# Altium integrated library TI Logic Arithmetic.IntLib: 194 symbols (part 1 of 4)
Pins are listed as number, name and electrical type; pins without a type are passive.

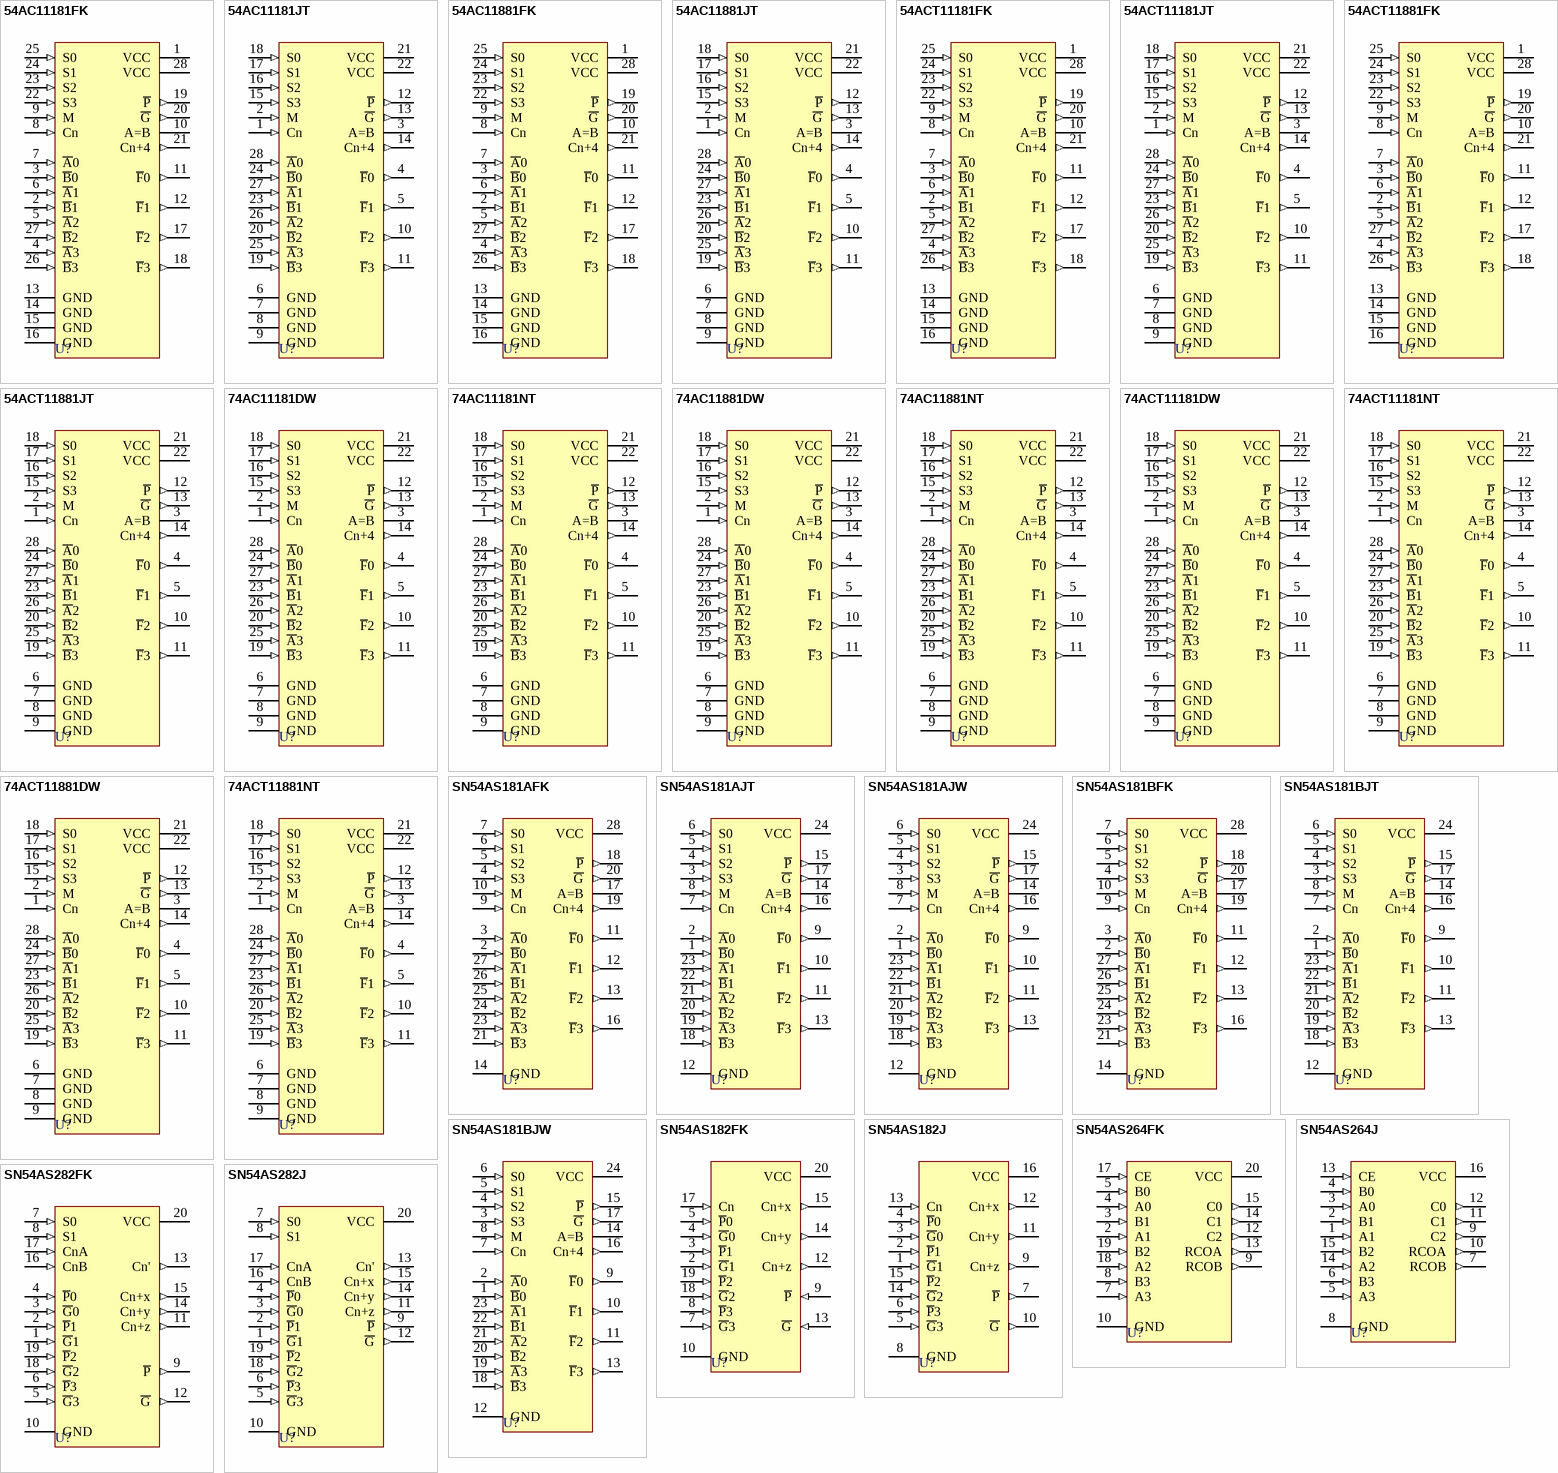
[diagram p0: symbols 54AC11181FK to SN54AS282J]

## 54AC11181FK
designator U?
Arithmetic Logic Unit / Function Generator; Published: 8-Jun-2000; LatestRevisionDate: 17-Jul-2002; LatestRevisionNote: Re-released for DXP Platform.; DatasheetVersion: Mar-1990; PackageVersion: 1998; PackageReference: FK028D; Publisher: Altium Limited; PackageDescription: Leadless Chip Carrier; 28 Terminals; Body 11.4 x 11.4 mm; ComponentLink1Description: Manufacturer Link; ComponentLink1URL: http://www.ti.com
footprint FK028D (Leadless Chip Carrier; 28 Terminals; Body 11.4 x 11.4 mm)
signal-integrity model 54AC11181FK
pins: 1 VCC (power), 2 ~{B}1 (in), 3 ~{B}0 (in), 4 ~{A}3 (in), 5 ~{A}2 (in), 6 ~{A}1 (in), 7 ~{A}0 (in), 8 Cn (in), 9 M (in), 10 A=B (oc), 11 ~{F}0 (out), 12 ~{F}1 (out), 13 GND (power), 14 GND (power), 15 GND (power), 16 GND (power), 17 ~{F}2 (out), 18 ~{F}3 (out), 19 ~{P} (out), 20 ~{G} (out), 21 Cn+4 (out), 22 S3 (in), 23 S2 (in), 24 S1 (in), 25 S0 (in), 26 ~{B}3 (in), 27 ~{B}2 (in), 28 VCC (power)

## 54AC11181JT
designator U?
Arithmetic Logic Unit / Function Generator; Published: 8-Jun-2000; LatestRevisionDate: 04-Mar-2005; LatestRevisionNote: Stylized 3D Model Added.; DatasheetVersion: Mar-1990; PackageVersion: Jan-1997; PackageReference: JT028D; Publisher: Altium Limited; PackageDescription: DIP; 28 Leads; Row Spacing 7.62 mm; Pitch 2.54 mm; ComponentLink1Description: Manufacturer Link; ComponentLink1URL: http://www.ti.com
footprint JT028D (DIP; 28 Leads; Row Spacing 7.62 mm; Pitch 2.54 mm)
3D model JT028 (DIP; 28 Leads; Row Spacing 7.62 mm; Pitch 2.54 mm)
signal-integrity model 54AC11181JT
pins: 1 Cn (in), 2 M (in), 3 A=B (oc), 4 ~{F}0 (out), 5 ~{F}1 (out), 6 GND (power), 7 GND (power), 8 GND (power), 9 GND (power), 10 ~{F}2 (out), 11 ~{F}3 (out), 12 ~{P} (out), 13 ~{G} (out), 14 Cn+4 (out), 15 S3 (in), 16 S2 (in), 17 S1 (in), 18 S0 (in), 19 ~{B}3 (in), 20 ~{B}2 (in), 21 VCC (power), 22 VCC (power), 23 ~{B}1 (in), 24 ~{B}0 (in), 25 ~{A}3 (in), 26 ~{A}2 (in), 27 ~{A}1 (in), 28 ~{A}0 (in)

## 54AC11881FK
designator U?
Arithmetic Logic Unit / Function Generator; Published: 8-Jun-2000; LatestRevisionDate: 17-Jul-2002; LatestRevisionNote: Re-released for DXP Platform.; DatasheetVersion: Mar-1990; PackageVersion: 1998; PackageReference: FK028D; Publisher: Altium Limited; PackageDescription: Leadless Chip Carrier; 28 Terminals; Body 11.4 x 11.4 mm; ComponentLink1Description: Manufacturer Link; ComponentLink1URL: http://www.ti.com
footprint FK028D (Leadless Chip Carrier; 28 Terminals; Body 11.4 x 11.4 mm)
signal-integrity model 54AC11881FK
pins: 1 VCC (power), 2 ~{B}1 (in), 3 ~{B}0 (in), 4 ~{A}3 (in), 5 ~{A}2 (in), 6 ~{A}1 (in), 7 ~{A}0 (in), 8 Cn (in), 9 M (in), 10 A=B (oc), 11 ~{F}0 (out), 12 ~{F}1 (out), 13 GND (power), 14 GND (power), 15 GND (power), 16 GND (power), 17 ~{F}2 (out), 18 ~{F}3 (out), 19 ~{P} (out), 20 ~{G} (out), 21 Cn+4 (out), 22 S3 (in), 23 S2 (in), 24 S1 (in), 25 S0 (in), 26 ~{B}3 (in), 27 ~{B}2 (in), 28 VCC (power)

## 54AC11881JT
designator U?
Arithmetic Logic Unit / Function Generator; Published: 8-Jun-2000; LatestRevisionDate: 04-Mar-2005; LatestRevisionNote: Stylized 3D Model Added.; DatasheetVersion: Mar-1990; PackageVersion: Jan-1997; PackageReference: JT028D; Publisher: Altium Limited; PackageDescription: DIP; 28 Leads; Row Spacing 7.62 mm; Pitch 2.54 mm; ComponentLink1Description: Manufacturer Link; ComponentLink1URL: http://www.ti.com
footprint JT028D (DIP; 28 Leads; Row Spacing 7.62 mm; Pitch 2.54 mm)
3D model JT028 (DIP; 28 Leads; Row Spacing 7.62 mm; Pitch 2.54 mm)
signal-integrity model 54AC11881JT
pins: 1 Cn (in), 2 M (in), 3 A=B (oc), 4 ~{F}0 (out), 5 ~{F}1 (out), 6 GND (power), 7 GND (power), 8 GND (power), 9 GND (power), 10 ~{F}2 (out), 11 ~{F}3 (out), 12 ~{P} (out), 13 ~{G} (out), 14 Cn+4 (out), 15 S3 (in), 16 S2 (in), 17 S1 (in), 18 S0 (in), 19 ~{B}3 (in), 20 ~{B}2 (in), 21 VCC (power), 22 VCC (power), 23 ~{B}1 (in), 24 ~{B}0 (in), 25 ~{A}3 (in), 26 ~{A}2 (in), 27 ~{A}1 (in), 28 ~{A}0 (in)

## 54ACT11181FK
designator U?
Arithmetic Logic Unit / Function Generator; Published: 8-Jun-2000; LatestRevisionDate: 17-Jul-2002; LatestRevisionNote: Re-released for DXP Platform.; DatasheetVersion: Mar-1990; PackageVersion: 1998; PackageReference: FK028D; Publisher: Altium Limited; PackageDescription: Leadless Chip Carrier; 28 Terminals; Body 11.4 x 11.4 mm; ComponentLink1Description: Manufacturer Link; ComponentLink1URL: http://www.ti.com
footprint FK028D (Leadless Chip Carrier; 28 Terminals; Body 11.4 x 11.4 mm)
signal-integrity model 54ACT11181FK
pins: 1 VCC (power), 2 ~{B}1 (in), 3 ~{B}0 (in), 4 ~{A}3 (in), 5 ~{A}2 (in), 6 ~{A}1 (in), 7 ~{A}0 (in), 8 Cn (in), 9 M (in), 10 A=B (oc), 11 ~{F}0 (out), 12 ~{F}1 (out), 13 GND (power), 14 GND (power), 15 GND (power), 16 GND (power), 17 ~{F}2 (out), 18 ~{F}3 (out), 19 ~{P} (out), 20 ~{G} (out), 21 Cn+4 (out), 22 S3 (in), 23 S2 (in), 24 S1 (in), 25 S0 (in), 26 ~{B}3 (in), 27 ~{B}2 (in), 28 VCC (power)

## 54ACT11181JT
designator U?
Arithmetic Logic Unit / Function Generator; Published: 8-Jun-2000; LatestRevisionDate: 04-Mar-2005; LatestRevisionNote: Stylized 3D Model Added.; DatasheetVersion: Mar-1990; PackageVersion: Jan-1997; PackageReference: JT028D; Publisher: Altium Limited; PackageDescription: DIP; 28 Leads; Row Spacing 7.62 mm; Pitch 2.54 mm; ComponentLink1Description: Manufacturer Link; ComponentLink1URL: http://www.ti.com
footprint JT028D (DIP; 28 Leads; Row Spacing 7.62 mm; Pitch 2.54 mm)
3D model JT028 (DIP; 28 Leads; Row Spacing 7.62 mm; Pitch 2.54 mm)
signal-integrity model 54ACT11181JT
pins: 1 Cn (in), 2 M (in), 3 A=B (oc), 4 ~{F}0 (out), 5 ~{F}1 (out), 6 GND (power), 7 GND (power), 8 GND (power), 9 GND (power), 10 ~{F}2 (out), 11 ~{F}3 (out), 12 ~{P} (out), 13 ~{G} (out), 14 Cn+4 (out), 15 S3 (in), 16 S2 (in), 17 S1 (in), 18 S0 (in), 19 ~{B}3 (in), 20 ~{B}2 (in), 21 VCC (power), 22 VCC (power), 23 ~{B}1 (in), 24 ~{B}0 (in), 25 ~{A}3 (in), 26 ~{A}2 (in), 27 ~{A}1 (in), 28 ~{A}0 (in)

## 54ACT11881FK
designator U?
Arithmetic Logic Unit / Function Generator; Published: 8-Jun-2000; LatestRevisionDate: 17-Jul-2002; LatestRevisionNote: Re-released for DXP Platform.; DatasheetVersion: Mar-1990; PackageVersion: 1998; PackageReference: FK028D; Publisher: Altium Limited; PackageDescription: Leadless Chip Carrier; 28 Terminals; Body 11.4 x 11.4 mm; ComponentLink1Description: Manufacturer Link; ComponentLink1URL: http://www.ti.com
footprint FK028D (Leadless Chip Carrier; 28 Terminals; Body 11.4 x 11.4 mm)
signal-integrity model 54ACT11881FK
pins: 1 VCC (power), 2 ~{B}1 (in), 3 ~{B}0 (in), 4 ~{A}3 (in), 5 ~{A}2 (in), 6 ~{A}1 (in), 7 ~{A}0 (in), 8 Cn (in), 9 M (in), 10 A=B (oc), 11 ~{F}0 (out), 12 ~{F}1 (out), 13 GND (power), 14 GND (power), 15 GND (power), 16 GND (power), 17 ~{F}2 (out), 18 ~{F}3 (out), 19 ~{P} (out), 20 ~{G} (out), 21 Cn+4 (out), 22 S3 (in), 23 S2 (in), 24 S1 (in), 25 S0 (in), 26 ~{B}3 (in), 27 ~{B}2 (in), 28 VCC (power)

## 54ACT11881JT
designator U?
Arithmetic Logic Unit / Function Generator; Published: 8-Jun-2000; LatestRevisionDate: 04-Mar-2005; LatestRevisionNote: Stylized 3D Model Added.; DatasheetVersion: Mar-1990; PackageVersion: Jan-1997; PackageReference: JT028D; Publisher: Altium Limited; PackageDescription: DIP; 28 Leads; Row Spacing 7.62 mm; Pitch 2.54 mm; ComponentLink1Description: Manufacturer Link; ComponentLink1URL: http://www.ti.com
footprint JT028D (DIP; 28 Leads; Row Spacing 7.62 mm; Pitch 2.54 mm)
3D model JT028 (DIP; 28 Leads; Row Spacing 7.62 mm; Pitch 2.54 mm)
signal-integrity model 54ACT11881JT
pins: 1 Cn (in), 2 M (in), 3 A=B (oc), 4 ~{F}0 (out), 5 ~{F}1 (out), 6 GND (power), 7 GND (power), 8 GND (power), 9 GND (power), 10 ~{F}2 (out), 11 ~{F}3 (out), 12 ~{P} (out), 13 ~{G} (out), 14 Cn+4 (out), 15 S3 (in), 16 S2 (in), 17 S1 (in), 18 S0 (in), 19 ~{B}3 (in), 20 ~{B}2 (in), 21 VCC (power), 22 VCC (power), 23 ~{B}1 (in), 24 ~{B}0 (in), 25 ~{A}3 (in), 26 ~{A}2 (in), 27 ~{A}1 (in), 28 ~{A}0 (in)

## 74AC11181DW
designator U?
Arithmetic Logic Unit / Function Generator; ComponentAvailability: Obsolete; Published: 8-Jun-2000; LatestRevisionDate: 13-Apr-2006; LatestRevisionNote: IPC-7351 Footprint Added.; DatasheetVersion: Mar-1990; PackageVersion: Mar-2000; PackageReference: DW028; Publisher: Altium Limited; PackageDescription: 28-Pin Plastic Small Outline Integrated Circuit 1.27 mm Pitch; Code_JEDEC: MS-013; ComponentLink1Description: Manufacturer Link; ComponentLink1URL: http://www.ti.com; ComponentLink2Description: Discontinuation Notice; ComponentLink2URL: http://focus.ti.com/docs/prod/folders/print/74ac11181.html
footprint DW028_N (SOIC, 28-Leads, Body 17.9x7.5mm, Pitch 1.27mm, IPC Medium Density)
footprint DW028_L (SOIC, 28-Leads, Body 17.9x7.5mm, Pitch 1.27mm, IPC High Density)
footprint DW028_M (SOIC, 28-Leads, Body 17.9x7.5mm, Pitch 1.27mm, IPC Low Density)
3D model DW028 (28-Pin Plastic Small Outline Integrated Circuit 1.27 mm Pitch)
signal-integrity model 74AC11181DW
pins: 1 Cn (in), 2 M (in), 3 A=B (oc), 4 ~{F}0 (out), 5 ~{F}1 (out), 6 GND (power), 7 GND (power), 8 GND (power), 9 GND (power), 10 ~{F}2 (out), 11 ~{F}3 (out), 12 ~{P} (out), 13 ~{G} (out), 14 Cn+4 (out), 15 S3 (in), 16 S2 (in), 17 S1 (in), 18 S0 (in), 19 ~{B}3 (in), 20 ~{B}2 (in), 21 VCC (power), 22 VCC (power), 23 ~{B}1 (in), 24 ~{B}0 (in), 25 ~{A}3 (in), 26 ~{A}2 (in), 27 ~{A}1 (in), 28 ~{A}0 (in)

## 74AC11181NT
designator U?
Arithmetic Logic Unit / Function Generator; Published: 8-Jun-2000; LatestRevisionDate: 04-Mar-2005; LatestRevisionNote: Stylized 3D Model Added.; DatasheetVersion: Mar-1990; PackageVersion: Oct-1994; PackageReference: NT028D; Publisher: Altium Limited; PackageDescription: DIP; 28 Leads; Row Spacing 7.62 mm; Pitch 2.54 mm; ComponentLink1Description: Manufacturer Link; ComponentLink1URL: http://www.ti.com
footprint NT028D (DIP; 28 Leads; Row Spacing 7.62 mm; Pitch 2.54 mm)
3D model NT028 (DIP; 28 Leads; Row Spacing 7.62 mm; Pitch 2.54 mm)
signal-integrity model 74AC11181NT
pins: 1 Cn (in), 2 M (in), 3 A=B (oc), 4 ~{F}0 (out), 5 ~{F}1 (out), 6 GND (power), 7 GND (power), 8 GND (power), 9 GND (power), 10 ~{F}2 (out), 11 ~{F}3 (out), 12 ~{P} (out), 13 ~{G} (out), 14 Cn+4 (out), 15 S3 (in), 16 S2 (in), 17 S1 (in), 18 S0 (in), 19 ~{B}3 (in), 20 ~{B}2 (in), 21 VCC (power), 22 VCC (power), 23 ~{B}1 (in), 24 ~{B}0 (in), 25 ~{A}3 (in), 26 ~{A}2 (in), 27 ~{A}1 (in), 28 ~{A}0 (in)

## 74AC11881DW
designator U?
Arithmetic Logic Unit / Function Generator; Published: 8-Jun-2000; LatestRevisionDate: 13-Apr-2006; LatestRevisionNote: IPC-7351 Footprint Added.; DatasheetVersion: Mar-1990; PackageVersion: Mar-2000; PackageReference: DW028; Publisher: Altium Limited; PackageDescription: 28-Pin Plastic Small Outline Integrated Circuit 1.27 mm Pitch; Code_JEDEC: MS-013; ComponentLink1Description: Manufacturer Link; ComponentLink1URL: http://www.ti.com
footprint DW028_N (SOIC, 28-Leads, Body 17.9x7.5mm, Pitch 1.27mm, IPC Medium Density)
footprint DW028_L (SOIC, 28-Leads, Body 17.9x7.5mm, Pitch 1.27mm, IPC High Density)
footprint DW028_M (SOIC, 28-Leads, Body 17.9x7.5mm, Pitch 1.27mm, IPC Low Density)
3D model DW028 (28-Pin Plastic Small Outline Integrated Circuit 1.27 mm Pitch)
signal-integrity model 74AC11881DW
pins: 1 Cn (in), 2 M (in), 3 A=B (oc), 4 ~{F}0 (out), 5 ~{F}1 (out), 6 GND (power), 7 GND (power), 8 GND (power), 9 GND (power), 10 ~{F}2 (out), 11 ~{F}3 (out), 12 ~{P} (out), 13 ~{G} (out), 14 Cn+4 (out), 15 S3 (in), 16 S2 (in), 17 S1 (in), 18 S0 (in), 19 ~{B}3 (in), 20 ~{B}2 (in), 21 VCC (power), 22 VCC (power), 23 ~{B}1 (in), 24 ~{B}0 (in), 25 ~{A}3 (in), 26 ~{A}2 (in), 27 ~{A}1 (in), 28 ~{A}0 (in)

## 74AC11881NT
designator U?
Arithmetic Logic Unit / Function Generator; Published: 8-Jun-2000; LatestRevisionDate: 04-Mar-2005; LatestRevisionNote: Stylized 3D Model Added.; DatasheetVersion: Mar-1990; PackageVersion: Oct-1994; PackageReference: NT028D; Publisher: Altium Limited; PackageDescription: DIP; 28 Leads; Row Spacing 7.62 mm; Pitch 2.54 mm; ComponentLink1Description: Manufacturer Link; ComponentLink1URL: http://www.ti.com
footprint NT028D (DIP; 28 Leads; Row Spacing 7.62 mm; Pitch 2.54 mm)
3D model NT028 (DIP; 28 Leads; Row Spacing 7.62 mm; Pitch 2.54 mm)
signal-integrity model 74AC11881NT
pins: 1 Cn (in), 2 M (in), 3 A=B (oc), 4 ~{F}0 (out), 5 ~{F}1 (out), 6 GND (power), 7 GND (power), 8 GND (power), 9 GND (power), 10 ~{F}2 (out), 11 ~{F}3 (out), 12 ~{P} (out), 13 ~{G} (out), 14 Cn+4 (out), 15 S3 (in), 16 S2 (in), 17 S1 (in), 18 S0 (in), 19 ~{B}3 (in), 20 ~{B}2 (in), 21 VCC (power), 22 VCC (power), 23 ~{B}1 (in), 24 ~{B}0 (in), 25 ~{A}3 (in), 26 ~{A}2 (in), 27 ~{A}1 (in), 28 ~{A}0 (in)

## 74ACT11181DW
designator U?
Arithmetic Logic Unit/Function Generator; ComponentAvailability: Obsolete; Published: 8-Jun-2000; LatestRevisionDate: 13-Apr-2006; LatestRevisionNote: IPC-7351 Footprint Added.; DatasheetVersion: Apr-1993; PackageVersion: Mar-2000; PackageReference: DW028; Publisher: Altium Limited; PackageDescription: 28-Pin Plastic Small Outline Integrated Circuit 1.27 mm Pitch; Code_JEDEC: MS-013; ComponentLink1Description: Manufacturer Link; ComponentLink1URL: http://www.ti.com; ComponentLink2Description: Datasheet; ComponentLink2URL: http://www-s.ti.com/sc/ds/74act11181.pdf
footprint DW028_N (SOIC, 28-Leads, Body 17.9x7.5mm, Pitch 1.27mm, IPC Medium Density)
footprint DW028_L (SOIC, 28-Leads, Body 17.9x7.5mm, Pitch 1.27mm, IPC High Density)
footprint DW028_M (SOIC, 28-Leads, Body 17.9x7.5mm, Pitch 1.27mm, IPC Low Density)
3D model DW028 (28-Pin Plastic Small Outline Integrated Circuit 1.27 mm Pitch)
signal-integrity model 74ACT11181DW
pins: 1 Cn (in), 2 M (in), 3 A=B (oc), 4 ~{F}0 (out), 5 ~{F}1 (out), 6 GND (power), 7 GND (power), 8 GND (power), 9 GND (power), 10 ~{F}2 (out), 11 ~{F}3 (out), 12 ~{P} (out), 13 ~{G} (out), 14 Cn+4 (out), 15 S3 (in), 16 S2 (in), 17 S1 (in), 18 S0 (in), 19 ~{B}3 (in), 20 ~{B}2 (in), 21 VCC (power), 22 VCC (power), 23 ~{B}1 (in), 24 ~{B}0 (in), 25 ~{A}3 (in), 26 ~{A}2 (in), 27 ~{A}1 (in), 28 ~{A}0 (in)

## 74ACT11181NT
designator U?
Arithmetic Logic Unit/Function Generator; ComponentAvailability: Obsolete; Published: 8-Jun-2000; LatestRevisionDate: 04-Mar-2005; LatestRevisionNote: Stylized 3D Model Added.; DatasheetVersion: Apr-1993; PackageVersion: Oct-1994; PackageReference: NT028; Publisher: Altium Limited; PackageDescription: DIP; 28 Leads; Row Spacing 7.62 mm; Pitch 2.54 mm; ComponentLink1Description: Manufacturer Link; ComponentLink1URL: http://www.ti.com; ComponentLink2Description: Datasheet; ComponentLink2URL: http://www-s.ti.com/sc/ds/74act11181.pdf
footprint NT028 (DIP; 28 Leads; Row Spacing 7.62 mm; Pitch 2.54 mm)
3D model NT028 (DIP; 28 Leads; Row Spacing 7.62 mm; Pitch 2.54 mm)
signal-integrity model 74ACT11181NT
pins: 1 Cn (in), 2 M (in), 3 A=B (oc), 4 ~{F}0 (out), 5 ~{F}1 (out), 6 GND (power), 7 GND (power), 8 GND (power), 9 GND (power), 10 ~{F}2 (out), 11 ~{F}3 (out), 12 ~{P} (out), 13 ~{G} (out), 14 Cn+4 (out), 15 S3 (in), 16 S2 (in), 17 S1 (in), 18 S0 (in), 19 ~{B}3 (in), 20 ~{B}2 (in), 21 VCC (power), 22 VCC (power), 23 ~{B}1 (in), 24 ~{B}0 (in), 25 ~{A}3 (in), 26 ~{A}2 (in), 27 ~{A}1 (in), 28 ~{A}0 (in)

## 74ACT11881DW
designator U?
Arithmetic Logic Unit / Function Generator; Published: 8-Jun-2000; LatestRevisionDate: 13-Apr-2006; LatestRevisionNote: IPC-7351 Footprint Added.; DatasheetVersion: Mar-1990; PackageVersion: Mar-2000; PackageReference: DW028; Publisher: Altium Limited; PackageDescription: 28-Pin Plastic Small Outline Integrated Circuit 1.27 mm Pitch; Code_JEDEC: MS-013; ComponentLink1Description: Manufacturer Link; ComponentLink1URL: http://www.ti.com
footprint DW028_N (SOIC, 28-Leads, Body 17.9x7.5mm, Pitch 1.27mm, IPC Medium Density)
footprint DW028_L (SOIC, 28-Leads, Body 17.9x7.5mm, Pitch 1.27mm, IPC High Density)
footprint DW028_M (SOIC, 28-Leads, Body 17.9x7.5mm, Pitch 1.27mm, IPC Low Density)
3D model DW028 (28-Pin Plastic Small Outline Integrated Circuit 1.27 mm Pitch)
signal-integrity model 74ACT11881DW
pins: 1 Cn (in), 2 M (in), 3 A=B (oc), 4 ~{F}0 (out), 5 ~{F}1 (out), 6 GND (power), 7 GND (power), 8 GND (power), 9 GND (power), 10 ~{F}2 (out), 11 ~{F}3 (out), 12 ~{P} (out), 13 ~{G} (out), 14 Cn+4 (out), 15 S3 (in), 16 S2 (in), 17 S1 (in), 18 S0 (in), 19 ~{B}3 (in), 20 ~{B}2 (in), 21 VCC (power), 22 VCC (power), 23 ~{B}1 (in), 24 ~{B}0 (in), 25 ~{A}3 (in), 26 ~{A}2 (in), 27 ~{A}1 (in), 28 ~{A}0 (in)

## 74ACT11881NT
designator U?
Arithmetic Logic Unit / Function Generator; Published: 8-Jun-2000; LatestRevisionDate: 04-Mar-2005; LatestRevisionNote: Stylized 3D Model Added.; DatasheetVersion: Mar-1990; PackageVersion: Oct-1994; PackageReference: NT028D; Publisher: Altium Limited; PackageDescription: DIP; 28 Leads; Row Spacing 7.62 mm; Pitch 2.54 mm; ComponentLink1Description: Manufacturer Link; ComponentLink1URL: http://www.ti.com
footprint NT028D (DIP; 28 Leads; Row Spacing 7.62 mm; Pitch 2.54 mm)
3D model NT028 (DIP; 28 Leads; Row Spacing 7.62 mm; Pitch 2.54 mm)
signal-integrity model 74ACT11881NT
pins: 1 Cn (in), 2 M (in), 3 A=B (oc), 4 ~{F}0 (out), 5 ~{F}1 (out), 6 GND (power), 7 GND (power), 8 GND (power), 9 GND (power), 10 ~{F}2 (out), 11 ~{F}3 (out), 12 ~{P} (out), 13 ~{G} (out), 14 Cn+4 (out), 15 S3 (in), 16 S2 (in), 17 S1 (in), 18 S0 (in), 19 ~{B}3 (in), 20 ~{B}2 (in), 21 VCC (power), 22 VCC (power), 23 ~{B}1 (in), 24 ~{B}0 (in), 25 ~{A}3 (in), 26 ~{A}2 (in), 27 ~{A}1 (in), 28 ~{A}0 (in)

## SN54AS181AFK
designator U?
Arithmetic Logic Unit / Function Generator; Note: Pin(s) 1,8,15,22 "No Connection" and not drawn.; Published: 8-Jun-2000; LatestRevisionDate: 17-Jul-2002; LatestRevisionNote: Re-released for DXP Platform.; DatasheetVersion: Aug-1985; PackageVersion: 1998; PackageReference: FK028D; Publisher: Altium Limited; PackageDescription: Leadless Chip Carrier; 28 Terminals; Body 11.4 x 11.4 mm; ComponentLink1Description: Manufacturer Link; ComponentLink1URL: http://www.ti.com
footprint FK028D (Leadless Chip Carrier; 28 Terminals; Body 11.4 x 11.4 mm)
signal-integrity model SN54AS181AFK
pins: 2 ~{B}0 (in), 3 ~{A}0 (in), 4 S3 (in), 5 S2 (in), 6 S1 (in), 7 S0 (in), 9 Cn (in), 10 M (in), 11 ~{F}0 (out), 12 ~{F}1 (out), 13 ~{F}2 (out), 14 GND (power), 16 ~{F}3 (out), 17 A=B (oc), 18 ~{P} (out), 19 Cn+4 (out), 20 ~{G} (out), 21 ~{B}3 (in), 23 ~{A}3 (in), 24 ~{B}2 (in), 25 ~{A}2 (in), 26 ~{B}1 (in), 27 ~{A}1 (in), 28 VCC (power)

## SN54AS181AJT
designator U?
Arithmetic Logic Unit / Function Generator; Published: 8-Jun-2000; LatestRevisionDate: 04-Mar-2005; LatestRevisionNote: Stylized 3D Model Added.; DatasheetVersion: Aug-1985; PackageVersion: Jan-1997; PackageReference: JT024D; Publisher: Altium Limited; PackageDescription: DIP; 24 Leads; Row Spacing 7.62 mm; Pitch 2.54 mm; Code_JEDEC: MS-001-AF; ComponentLink1Description: Manufacturer Link; ComponentLink1URL: http://www.ti.com
footprint JT024D (DIP; 24 Leads; Row Spacing 7.62 mm; Pitch 2.54 mm)
3D model JT024 (DIP; 24 Leads; Row Spacing 7.62 mm; Pitch 2.54 mm)
signal-integrity model SN54AS181AJT
pins: 1 ~{B}0 (in), 2 ~{A}0 (in), 3 S3 (in), 4 S2 (in), 5 S1 (in), 6 S0 (in), 7 Cn (in), 8 M (in), 9 ~{F}0 (out), 10 ~{F}1 (out), 11 ~{F}2 (out), 12 GND (power), 13 ~{F}3 (out), 14 A=B (oc), 15 ~{P} (out), 16 Cn+4 (out), 17 ~{G} (out), 18 ~{B}3 (in), 19 ~{A}3 (in), 20 ~{B}2 (in), 21 ~{A}2 (in), 22 ~{B}1 (in), 23 ~{A}1 (in), 24 VCC (power)

## SN54AS181AJW
designator U?
Arithmetic Logic Unit / Function Generator; Published: 8-Jun-2000; LatestRevisionDate: 04-Mar-2005; LatestRevisionNote: Stylized 3D Model Added.; DatasheetVersion: Aug-1985; PackageVersion: Oct-1994; PackageReference: JW024D; Publisher: Altium Limited; PackageDescription: DIP; 24 Leads; Row Spacing 15.24 mm; Pitch 2.54 mm; Code_JEDEC: MS-011-AA; ComponentLink1Description: Manufacturer Link; ComponentLink1URL: http://www.ti.com
footprint JW024D (DIP; 24 Leads; Row Spacing 15.24 mm; Pitch 2.54 mm)
3D model JW024 (DIP; 24 Leads; Row Spacing 15.24 mm; Pitch 2.54 mm)
signal-integrity model SN54AS181AJW
pins: 1 ~{B}0 (in), 2 ~{A}0 (in), 3 S3 (in), 4 S2 (in), 5 S1 (in), 6 S0 (in), 7 Cn (in), 8 M (in), 9 ~{F}0 (out), 10 ~{F}1 (out), 11 ~{F}2 (out), 12 GND (power), 13 ~{F}3 (out), 14 A=B (oc), 15 ~{P} (out), 16 Cn+4 (out), 17 ~{G} (out), 18 ~{B}3 (in), 19 ~{A}3 (in), 20 ~{B}2 (in), 21 ~{A}2 (in), 22 ~{B}1 (in), 23 ~{A}1 (in), 24 VCC (power)

## SN54AS181BFK
designator U?
Arithmetic Logic Unit / Function Generator; Note: Pins no 1,8,15 and 22 are not connected; Published: 8-Jun-2000; LatestRevisionDate: 17-Jul-2002; LatestRevisionNote: Re-released for DXP Platform.; DatasheetVersion: Dec-1994; PackageVersion: 1998; PackageReference: FK028; Publisher: Altium Limited; PackageDescription: Leadless Chip Carrier; 28 Terminals; Body 11.4 x 11.4 mm; ComponentLink1Description: Manufacturer Link; ComponentLink1URL: http://www.ti.com; ComponentLink2Description: Datasheet; ComponentLink2URL: http://www-s.ti.com/sc/ds/sn74as181a.pdf
footprint FK028 (Leadless Chip Carrier; 28 Terminals; Body 11.4 x 11.4 mm)
signal-integrity model SN54AS181BFK
pins: 2 ~{B}0 (in), 3 ~{A}0 (in), 4 S3 (in), 5 S2 (in), 6 S1 (in), 7 S0 (in), 9 Cn (in), 10 M (in), 11 ~{F}0 (out), 12 ~{F}1 (out), 13 ~{F}2 (out), 14 GND (power), 16 ~{F}3 (out), 17 A=B (oc), 18 ~{P} (out), 19 Cn+4 (out), 20 ~{G} (out), 21 ~{B}3 (in), 23 ~{A}3 (in), 24 ~{B}2 (in), 25 ~{A}2 (in), 26 ~{B}1 (in), 27 ~{A}1 (in), 28 VCC (power)

## SN54AS181BJT
designator U?
Arithmetic Logic Unit / Function Generator; ComponentAvailability: Obsolete; Published: 8-Jun-2000; LatestRevisionDate: 04-Mar-2005; LatestRevisionNote: Stylized 3D Model Added.; DatasheetVersion: Dec-1994; PackageVersion: Jan-1997; PackageReference: JT024; Publisher: Altium Limited; PackageDescription: DIP; 24 Leads; Row Spacing 7.62 mm; Pitch 2.54 mm; Code_JEDEC: MS-001-AF; ComponentLink1Description: Manufacturer Link; ComponentLink1URL: http://www.ti.com; ComponentLink2Description: Datasheet; ComponentLink2URL: http://www-s.ti.com/sc/ds/sn74as181a.pdf
footprint JT024 (DIP; 24 Leads; Row Spacing 7.62 mm; Pitch 2.54 mm)
3D model JT024 (DIP; 24 Leads; Row Spacing 7.62 mm; Pitch 2.54 mm)
signal-integrity model SN54AS181BJT
pins: 1 ~{B}0 (in), 2 ~{A}0 (in), 3 S3 (in), 4 S2 (in), 5 S1 (in), 6 S0 (in), 7 Cn (in), 8 M (in), 9 ~{F}0 (out), 10 ~{F}1 (out), 11 ~{F}2 (out), 12 GND (power), 13 ~{F}3 (out), 14 A=B (oc), 15 ~{P} (out), 16 Cn+4 (out), 17 ~{G} (out), 18 ~{B}3 (in), 19 ~{A}3 (in), 20 ~{B}2 (in), 21 ~{A}2 (in), 22 ~{B}1 (in), 23 ~{A}1 (in), 24 VCC (power)

## SN54AS181BJW
designator U?
Arithmetic Logic Unit / Function Generator; Published: 8-Jun-2000; LatestRevisionDate: 04-Mar-2005; LatestRevisionNote: Stylized 3D Model Added.; DatasheetVersion: Dec-1994; PackageVersion: Oct-1994; PackageReference: JW024; Publisher: Altium Limited; PackageDescription: DIP; 24 Leads; Row Spacing 15.24 mm; Pitch 2.54 mm; Code_JEDEC: MS-011-AA; ComponentLink1Description: Manufacturer Link; ComponentLink1URL: http://www.ti.com; ComponentLink2Description: Datasheet; ComponentLink2URL: http://www-s.ti.com/sc/ds/sn74as181a.pdf
footprint JW024 (DIP; 24 Leads; Row Spacing 15.24 mm; Pitch 2.54 mm)
3D model JW024 (DIP; 24 Leads; Row Spacing 15.24 mm; Pitch 2.54 mm)
signal-integrity model SN54AS181BJW
pins: 1 ~{B}0 (in), 2 ~{A}0 (in), 3 S3 (in), 4 S2 (in), 5 S1 (in), 6 S0 (in), 7 Cn (in), 8 M (in), 9 ~{F}0 (out), 10 ~{F}1 (out), 11 ~{F}2 (out), 12 GND (power), 13 ~{F}3 (out), 14 A=B (oc), 15 ~{P} (out), 16 Cn+4 (out), 17 ~{G} (out), 18 ~{B}3 (in), 19 ~{A}3 (in), 20 ~{B}2 (in), 21 ~{A}2 (in), 22 ~{B}1 (in), 23 ~{A}1 (in), 24 VCC (power)

## SN54AS182FK
designator U?
Look-Ahead Carry Generator; Note: Pin(s) 1,6,11,16 " No Connection" and not drawn.; Published: 8-Jun-2000; LatestRevisionDate: 17-Jul-2002; LatestRevisionNote: Re-released for DXP Platform.; DatasheetVersion: May-1986; PackageVersion: 1998; PackageReference: FK020D; Publisher: Altium Limited; PackageDescription: Leadless Chip Carrier; 20 Terminals; Body 8.9 x 8.9 mm; ComponentLink1Description: Manufacturer Link; ComponentLink1URL: http://www.ti.com
footprint FK020D (Leadless Chip Carrier; 20 Terminals; Body 8.9 x 8.9 mm)
signal-integrity model SN54AS182FK
pins: 2 ~{G}1 (in), 3 ~{P}1 (in), 4 ~{G}0 (in), 5 ~{P}0 (in), 7 ~{G}3 (in), 8 ~{P}3 (in), 9 ~{P} (in), 10 GND (power), 12 Cn+z (out), 13 ~{G} (in), 14 Cn+y (out), 15 Cn+x (out), 17 Cn (in), 18 ~{G}2 (in), 19 ~{P}2 (in), 20 VCC (power)

## SN54AS182J
designator U?
Look-Ahead Carry Generator; Published: 8-Jun-2000; LatestRevisionDate: 04-Mar-2005; LatestRevisionNote: Stylized 3D Model Added.; DatasheetVersion: May-1986; PackageVersion: Jun-1999; PackageReference: J016D; Publisher: Altium Limited; PackageDescription: DIP; 16 Leads; Row Spacing 7.62 mm; Pitch 2.54 mm; ComponentLink1Description: Manufacturer Link; ComponentLink1URL: http://www.ti.com
footprint J016D (DIP; 16 Leads; Row Spacing 7.62 mm; Pitch 2.54 mm)
3D model J016 (DIP; 16 Leads; Row Spacing 7.62 mm; Pitch 2.54 mm)
signal-integrity model SN54AS182J
pins: 1 ~{G}1 (in), 2 ~{P}1 (in), 3 ~{G}0 (in), 4 ~{P}0 (in), 5 ~{G}3 (in), 6 ~{P}3 (in), 7 ~{P} (out), 8 GND (power), 9 Cn+z (out), 10 ~{G} (out), 11 Cn+y (out), 12 Cn+x (out), 13 Cn (in), 14 ~{G}2 (in), 15 ~{P}2 (in), 16 VCC (power)

## SN54AS264FK
designator U?
Look-Ahead Carry Generator for Counters; Note: Pin(s) 1,6,11,16 " No Connection" and not drawn.; Published: 8-Jun-2000; LatestRevisionDate: 17-Jul-2002; LatestRevisionNote: Re-released for DXP Platform.; DatasheetVersion: May-1986; PackageVersion: 1998; PackageReference: FK020D; Publisher: Altium Limited; PackageDescription: Leadless Chip Carrier; 20 Terminals; Body 8.9 x 8.9 mm; ComponentLink1Description: Manufacturer Link; ComponentLink1URL: http://www.ti.com
footprint FK020D (Leadless Chip Carrier; 20 Terminals; Body 8.9 x 8.9 mm)
signal-integrity model SN54AS264FK
pins: 2 A1 (in), 3 B1 (in), 4 A0 (in), 5 B0 (in), 7 A3 (in), 8 B3 (in), 9 RCOB (out), 10 GND (power), 12 C2 (out), 13 RCOA (out), 14 C1 (out), 15 C0 (out), 17 CE (in), 18 A2 (in), 19 B2 (in), 20 VCC (power)

## SN54AS264J
designator U?
Look-Ahead Carry Generator for Counters; Published: 8-Jun-2000; LatestRevisionDate: 04-Mar-2005; LatestRevisionNote: Stylized 3D Model Added.; DatasheetVersion: May-1986; PackageVersion: Jun-1999; PackageReference: J016D; Publisher: Altium Limited; PackageDescription: DIP; 16 Leads; Row Spacing 7.62 mm; Pitch 2.54 mm; ComponentLink1Description: Manufacturer Link; ComponentLink1URL: http://www.ti.com
footprint J016D (DIP; 16 Leads; Row Spacing 7.62 mm; Pitch 2.54 mm)
3D model J016 (DIP; 16 Leads; Row Spacing 7.62 mm; Pitch 2.54 mm)
signal-integrity model SN54AS264J
pins: 1 A1 (in), 2 B1 (in), 3 A0 (in), 4 B0 (in), 5 A3 (in), 6 B3 (in), 7 RCOB (out), 8 GND (power), 9 C2 (out), 10 RCOA (out), 11 C1 (out), 12 C0 (out), 13 CE (in), 14 A2 (in), 15 B2 (in), 16 VCC (power)

## SN54AS282FK
designator U?
Look-Ahead Carry Generator with Selectable Carry Inputs; Published: 8-Jun-2000; LatestRevisionDate: 17-Jul-2002; LatestRevisionNote: Re-released for DXP Platform.; DatasheetVersion: May-1986; PackageVersion: 1998; PackageReference: FK020D; Publisher: Altium Limited; PackageDescription: Leadless Chip Carrier; 20 Terminals; Body 8.9 x 8.9 mm; ComponentLink1Description: Manufacturer Link; ComponentLink1URL: http://www.ti.com
footprint FK020D (Leadless Chip Carrier; 20 Terminals; Body 8.9 x 8.9 mm)
signal-integrity model SN54AS282FK
pins: 1 ~{G}1 (in), 2 ~{P}1 (in), 3 ~{G}0 (in), 4 ~{P}0 (in), 5 ~{G}3 (in), 6 ~{P}3 (in), 7 S0 (in), 8 S1 (in), 9 ~{P} (out), 10 GND (power), 11 Cn+z (out), 12 ~{G} (out), 13 Cn' (out), 14 Cn+y (out), 15 Cn+x (out), 16 CnB (in), 17 CnA (in), 18 ~{G}2 (in), 19 ~{P}2 (in), 20 VCC (power)

## SN54AS282J
designator U?
Look-Ahead Carry Generator with Selectable Carry Inputs; Published: 8-Jun-2000; LatestRevisionDate: 04-Mar-2005; LatestRevisionNote: Stylized 3D Model Added.; DatasheetVersion: May-1986; PackageVersion: Jun-1999; PackageReference: J020D; Publisher: Altium Limited; PackageDescription: DIP; 20 Leads; Row Spacing 7.62 mm; Pitch 2.54 mm; ComponentLink1Description: Manufacturer Link; ComponentLink1URL: http://www.ti.com
footprint J020D (DIP; 20 Leads; Row Spacing 7.62 mm; Pitch 2.54 mm)
3D model J020 (DIP; 20 Leads; Row Spacing 7.62 mm; Pitch 2.54 mm)
signal-integrity model SN54AS282J
pins: 1 ~{G}1 (in), 2 ~{P}1 (in), 3 ~{G}0 (in), 4 ~{P}0 (in), 5 ~{G}3 (in), 6 ~{P}3 (in), 7 S0 (in), 8 S1 (in), 9 ~{P} (out), 10 GND (power), 11 Cn+z (out), 12 ~{G} (out), 13 Cn' (out), 14 Cn+y (out), 15 Cn+x (out), 16 CnB (in), 17 CnA (in), 18 ~{G}2 (in), 19 ~{P}2 (in), 20 VCC (power)

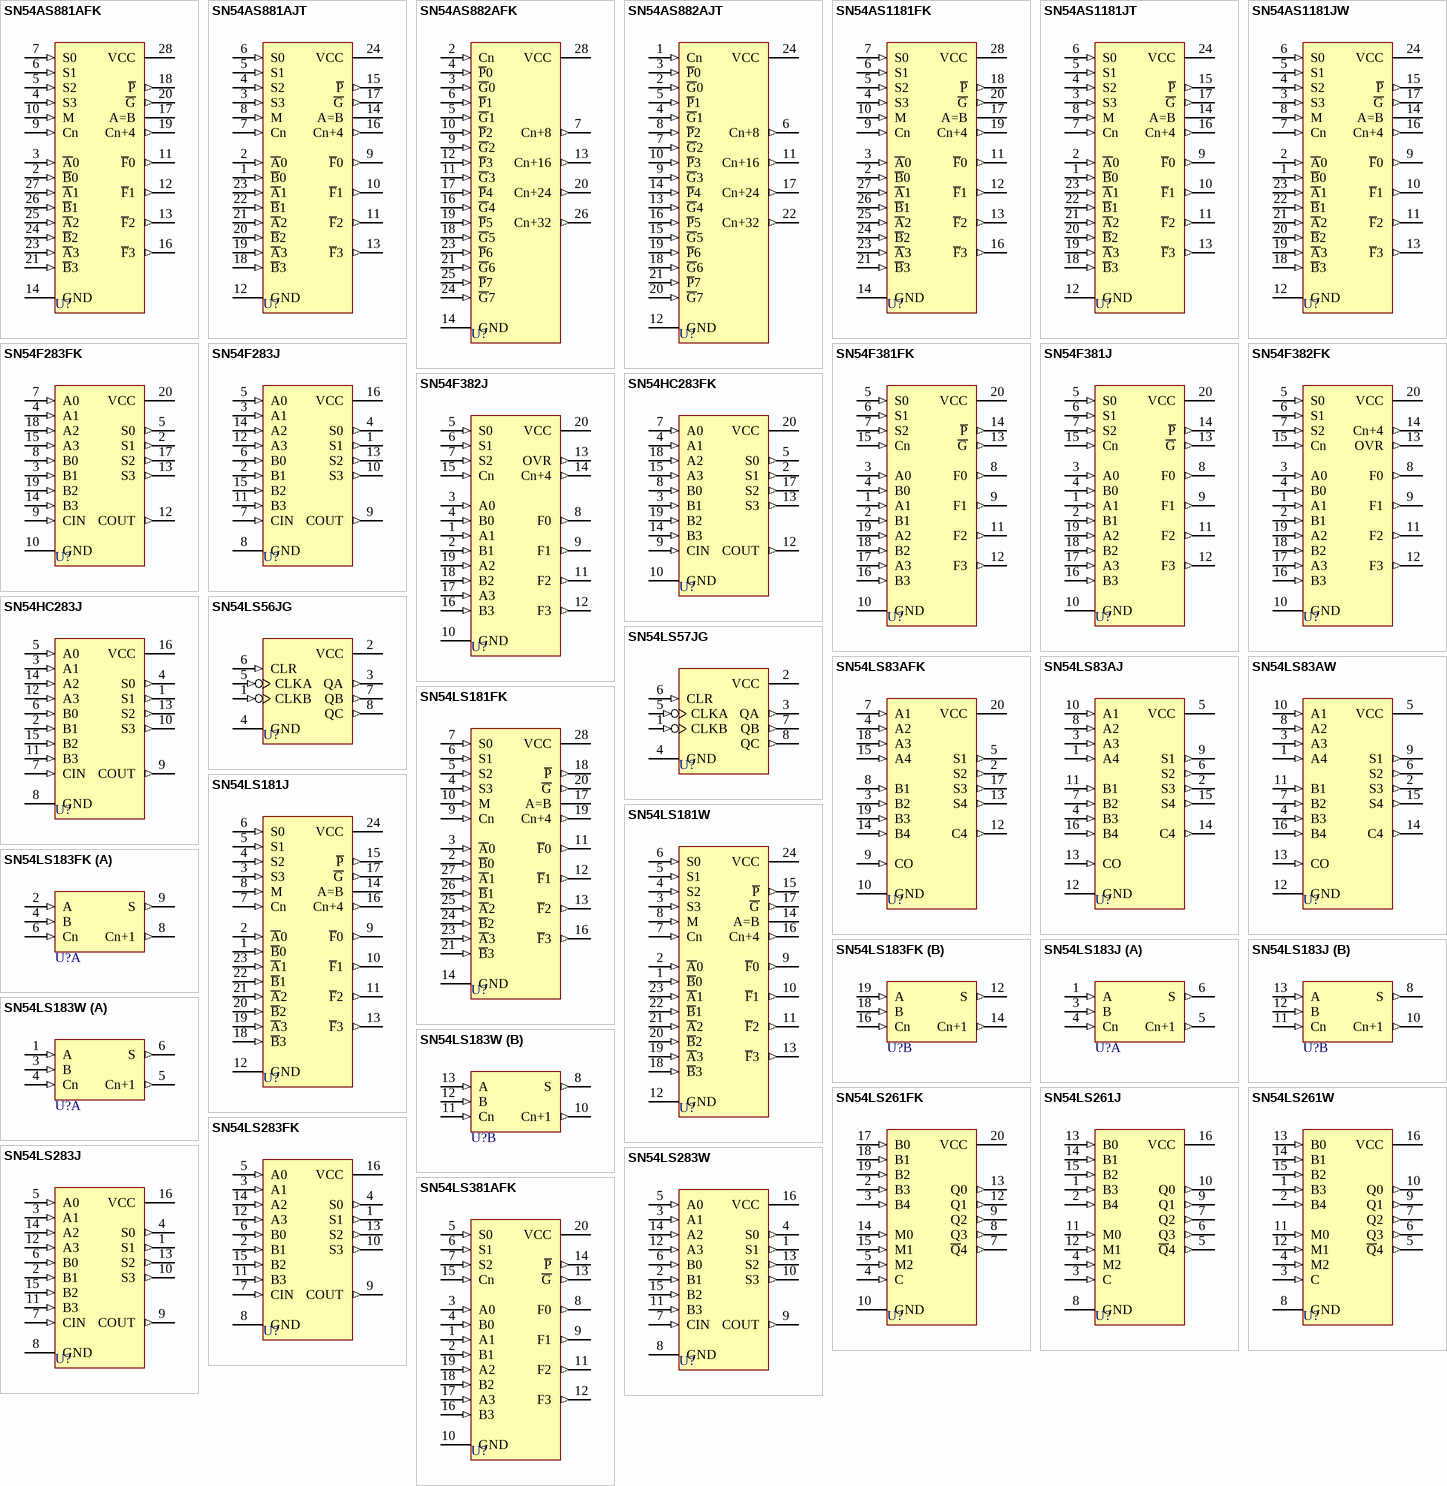
[diagram p1: symbols SN54AS881AFK to SN54LS381AFK]

## SN54AS881AFK
designator U?
Arithmetic Logic Unit / Function Generator; Note: Pin(s) 1,8,15,22 "No Connection" and not drawn.; Published: 8-Jun-2000; LatestRevisionDate: 17-Jul-2002; LatestRevisionNote: Re-released for DXP Platform.; DatasheetVersion: Aug-1985; PackageVersion: 1998; PackageReference: FK028D; Publisher: Altium Limited; PackageDescription: Leadless Chip Carrier; 28 Terminals; Body 11.4 x 11.4 mm; ComponentLink1Description: Manufacturer Link; ComponentLink1URL: http://www.ti.com
footprint FK028D (Leadless Chip Carrier; 28 Terminals; Body 11.4 x 11.4 mm)
signal-integrity model SN54AS881AFK
pins: 2 ~{B}0 (in), 3 ~{A}0 (in), 4 S3 (in), 5 S2 (in), 6 S1 (in), 7 S0 (in), 9 Cn (in), 10 M (in), 11 ~{F}0 (out), 12 ~{F}1 (out), 13 ~{F}2 (out), 14 GND (power), 16 ~{F}3 (out), 17 A=B (oc), 18 ~{P} (out), 19 Cn+4 (out), 20 ~{G} (out), 21 ~{B}3 (in), 23 ~{A}3 (in), 24 ~{B}2 (in), 25 ~{A}2 (in), 26 ~{B}1 (in), 27 ~{A}1 (in), 28 VCC (power)

## SN54AS881AJT
designator U?
Arithmetic Logic Unit / Function Generator; Published: 8-Jun-2000; LatestRevisionDate: 04-Mar-2005; LatestRevisionNote: Stylized 3D Model Added.; DatasheetVersion: Aug-1985; PackageVersion: Jan-1997; PackageReference: JT024D; Publisher: Altium Limited; PackageDescription: DIP; 24 Leads; Row Spacing 7.62 mm; Pitch 2.54 mm; Code_JEDEC: MS-001-AF; ComponentLink1Description: Manufacturer Link; ComponentLink1URL: http://www.ti.com
footprint JT024D (DIP; 24 Leads; Row Spacing 7.62 mm; Pitch 2.54 mm)
3D model JT024 (DIP; 24 Leads; Row Spacing 7.62 mm; Pitch 2.54 mm)
signal-integrity model SN54AS881AJT
pins: 1 ~{B}0 (in), 2 ~{A}0 (in), 3 S3 (in), 4 S2 (in), 5 S1 (in), 6 S0 (in), 7 Cn (in), 8 M (in), 9 ~{F}0 (out), 10 ~{F}1 (out), 11 ~{F}2 (out), 12 GND (power), 13 ~{F}3 (out), 14 A=B (oc), 15 ~{P} (out), 16 Cn+4 (out), 17 ~{G} (out), 18 ~{B}3 (in), 19 ~{A}3 (in), 20 ~{B}2 (in), 21 ~{A}2 (in), 22 ~{B}1 (in), 23 ~{A}1 (in), 24 VCC (power)

## SN54AS882AFK
designator U?
32-Bit Look-Ahead Carry Generator; Note: Pin(s) 1,8,15,22,27 "No Connection" and not drawn.; Published: 8-Jun-2000; LatestRevisionDate: 17-Jul-2002; LatestRevisionNote: Re-released for DXP Platform.; DatasheetVersion: Nov-1985; PackageVersion: 1998; PackageReference: FK028; Publisher: Altium Limited; PackageDescription: Leadless Chip Carrier; 28 Terminals; Body 11.4 x 11.4 mm; ComponentLink1Description: Manufacturer Link; ComponentLink1URL: http://www.ti.com; ComponentLink2Description: Datasheet; ComponentLink2URL: http://www-s.ti.com/sc/ds/sn74as882a.pdf
footprint FK028 (Leadless Chip Carrier; 28 Terminals; Body 11.4 x 11.4 mm)
signal-integrity model SN54AS882AFK
pins: 2 Cn (in), 3 ~{G}0 (in), 4 ~{P}0 (in), 5 ~{G}1 (in), 6 ~{P}1 (in), 7 Cn+8 (out), 9 ~{G}2 (in), 10 ~{P}2 (in), 11 ~{G}3 (in), 12 ~{P}3 (in), 13 Cn+16 (out), 14 GND (power), 16 ~{G}4 (in), 17 ~{P}4 (in), 18 ~{G}5 (in), 19 ~{P}5 (in), 20 Cn+24 (out), 21 ~{G}6 (in), 23 ~{P}6 (in), 24 ~{G}7 (in), 25 ~{P}7 (in), 26 Cn+32 (out), 28 VCC (power)

## SN54AS882AJT
designator U?
32-Bit Look-Ahead Carry Generator; Note: Pin(s) 23 "No Connection" and not drawn.; Published: 8-Jun-2000; LatestRevisionDate: 04-Mar-2005; LatestRevisionNote: Stylized 3D Model Added.; DatasheetVersion: Nov-1985; PackageVersion: Jan-1997; PackageReference: JT024; Publisher: Altium Limited; PackageDescription: DIP; 24 Leads; Row Spacing 7.62 mm; Pitch 2.54 mm; Code_JEDEC: MS-001-AF; ComponentLink1Description: Manufacturer Link; ComponentLink1URL: http://www.ti.com; ComponentLink2Description: Datasheet; ComponentLink2URL: http://www-s.ti.com/sc/ds/sn74as882a.pdf
footprint JT024 (DIP; 24 Leads; Row Spacing 7.62 mm; Pitch 2.54 mm)
3D model JT024 (DIP; 24 Leads; Row Spacing 7.62 mm; Pitch 2.54 mm)
signal-integrity model SN54AS882AJT
pins: 1 Cn (in), 2 ~{G}0 (in), 3 ~{P}0 (in), 4 ~{G}1 (in), 5 ~{P}1 (in), 6 Cn+8 (out), 7 ~{G}2 (in), 8 ~{P}2 (in), 9 ~{G}3 (in), 10 ~{P}3 (in), 11 Cn+16 (out), 12 GND (power), 13 ~{G}4 (in), 14 ~{P}4 (in), 15 ~{G}5 (in), 16 ~{P}5 (in), 17 Cn+24 (out), 18 ~{G}6 (in), 19 ~{P}6 (in), 20 ~{G}7 (in), 21 ~{P}7 (in), 22 Cn+32 (out), 24 VCC (power)

## SN54AS1181FK
designator U?
Arithmetic Logic Unit / Function Generator; Note: Pin(s) 1,8,15,22 "No Connection" and not drawn.; Published: 8-Jun-2000; LatestRevisionDate: 17-Jul-2002; LatestRevisionNote: Re-released for DXP Platform.; DatasheetVersion: May-1985; PackageVersion: 1998; PackageReference: FK028D; Publisher: Altium Limited; PackageDescription: Leadless Chip Carrier; 28 Terminals; Body 11.4 x 11.4 mm; ComponentLink1Description: Manufacturer Link; ComponentLink1URL: http://www.ti.com
footprint FK028D (Leadless Chip Carrier; 28 Terminals; Body 11.4 x 11.4 mm)
signal-integrity model SN54AS1181FK
pins: 2 ~{B}0 (in), 3 ~{A}0 (in), 4 S3 (in), 5 S2 (in), 6 S1 (in), 7 S0 (in), 9 Cn (in), 10 M (in), 11 ~{F}0 (out), 12 ~{F}1 (out), 13 ~{F}2 (out), 14 GND (power), 16 ~{F}3 (out), 17 A=B (oc), 18 ~{P} (out), 19 Cn+4 (out), 20 ~{G} (out), 21 ~{B}3 (in), 23 ~{A}3 (in), 24 ~{B}2 (in), 25 ~{A}2 (in), 26 ~{B}1 (in), 27 ~{A}1 (in), 28 VCC (power)

## SN54AS1181JT
designator U?
Arithmetic Logic Unit / Function Generator; Published: 8-Jun-2000; LatestRevisionDate: 04-Mar-2005; LatestRevisionNote: Stylized 3D Model Added.; DatasheetVersion: May-1985; PackageVersion: Jan-1997; PackageReference: JT024D; Publisher: Altium Limited; PackageDescription: DIP; 24 Leads; Row Spacing 7.62 mm; Pitch 2.54 mm; Code_JEDEC: MS-001-AF; ComponentLink1Description: Manufacturer Link; ComponentLink1URL: http://www.ti.com
footprint JT024D (DIP; 24 Leads; Row Spacing 7.62 mm; Pitch 2.54 mm)
3D model JT024 (DIP; 24 Leads; Row Spacing 7.62 mm; Pitch 2.54 mm)
signal-integrity model SN54AS1181JT
pins: 1 ~{B}0 (in), 2 ~{A}0 (in), 3 S3 (in), 4 S2 (in), 5 S1 (in), 6 S0 (in), 7 Cn (in), 8 M (in), 9 ~{F}0 (out), 10 ~{F}1 (out), 11 ~{F}2 (out), 12 GND (power), 13 ~{F}3 (out), 14 A=B (oc), 15 ~{P} (out), 16 Cn+4 (out), 17 ~{G} (out), 18 ~{B}3 (in), 19 ~{A}3 (in), 20 ~{B}2 (in), 21 ~{A}2 (in), 22 ~{B}1 (in), 23 ~{A}1 (in), 24 VCC (power)

## SN54AS1181JW
designator U?
Arithmetic Logic Unit / Function Generator; Published: 8-Jun-2000; LatestRevisionDate: 04-Mar-2005; LatestRevisionNote: Stylized 3D Model Added.; DatasheetVersion: May-1985; PackageVersion: Oct-1994; PackageReference: JW024D; Publisher: Altium Limited; PackageDescription: DIP; 24 Leads; Row Spacing 15.24 mm; Pitch 2.54 mm; Code_JEDEC: MS-011-AA; ComponentLink1Description: Manufacturer Link; ComponentLink1URL: http://www.ti.com
footprint JW024D (DIP; 24 Leads; Row Spacing 15.24 mm; Pitch 2.54 mm)
3D model JW024 (DIP; 24 Leads; Row Spacing 15.24 mm; Pitch 2.54 mm)
signal-integrity model SN54AS1181JW
pins: 1 ~{B}0 (in), 2 ~{A}0 (in), 3 S3 (in), 4 S2 (in), 5 S1 (in), 6 S0 (in), 7 Cn (in), 8 M (in), 9 ~{F}0 (out), 10 ~{F}1 (out), 11 ~{F}2 (out), 12 GND (power), 13 ~{F}3 (out), 14 A=B (oc), 15 ~{P} (out), 16 Cn+4 (out), 17 ~{G} (out), 18 ~{B}3 (in), 19 ~{A}3 (in), 20 ~{B}2 (in), 21 ~{A}2 (in), 22 ~{B}1 (in), 23 ~{A}1 (in), 24 VCC (power)

## SN54F283FK
designator U?
4-Bit Binary Full Adder with Fast Carry; Note: Pins 1, 6, 11, 16 are NC & are not drawn.; Published: 8-Jun-2000; LatestRevisionDate: 17-Jul-2002; LatestRevisionNote: Re-released for DXP Platform.; DatasheetVersion: Oct-1993; PackageVersion: 1998; PackageReference: FK020; Publisher: Altium Limited; PackageDescription: Leadless Chip Carrier; 20 Terminals; Body 8.9 x 8.9 mm; ComponentLink1Description: Manufacturer Link; ComponentLink1URL: http://www.ti.com; ComponentLink2Description: Datasheet; ComponentLink2URL: http://www-s.ti.com/sc/ds/sn74f283.pdf
footprint FK020 (Leadless Chip Carrier; 20 Terminals; Body 8.9 x 8.9 mm)
simulation model SN74F283 (SIMCODE)
signal-integrity model SN54F283FK
pins: 2 S1 (out), 3 B1 (in), 4 A1 (in), 5 S0 (out), 7 A0 (in), 8 B0 (in), 9 CIN (in), 10 GND (power), 12 COUT (out), 13 S3 (out), 14 B3 (in), 15 A3 (in), 17 S2 (out), 18 A2 (in), 19 B2 (in), 20 VCC (power)

## SN54F283J
designator U?
4-Bit Binary Full Adder with Fast Carry; Published: 8-Jun-2000; LatestRevisionDate: 04-Mar-2005; LatestRevisionNote: Stylized 3D Model Added.; DatasheetVersion: Oct-1993; PackageVersion: Jun-1999; PackageReference: J016; Publisher: Altium Limited; PackageDescription: DIP; 16 Leads; Row Spacing 7.62 mm; Pitch 2.54 mm; ComponentLink1Description: Manufacturer Link; ComponentLink1URL: http://www.ti.com; ComponentLink2Description: Datasheet; ComponentLink2URL: http://www-s.ti.com/sc/ds/sn74f283.pdf
footprint J016 (DIP; 16 Leads; Row Spacing 7.62 mm; Pitch 2.54 mm)
3D model J016 (DIP; 16 Leads; Row Spacing 7.62 mm; Pitch 2.54 mm)
simulation model SN74F283 (SIMCODE)
signal-integrity model SN54F283J
pins: 1 S1 (out), 2 B1 (in), 3 A1 (in), 4 S0 (out), 5 A0 (in), 6 B0 (in), 7 CIN (in), 8 GND (power), 9 COUT (out), 10 S3 (out), 11 B3 (in), 12 A3 (in), 13 S2 (out), 14 A2 (in), 15 B2 (in), 16 VCC (power)

## SN54F381FK
designator U?
Arithmetic Logic Unit / Function Generator; Published: 8-Jun-2000; LatestRevisionDate: 17-Jul-2002; LatestRevisionNote: Re-released for DXP Platform.; DatasheetVersion: Jun-1988; PackageVersion: 1998; PackageReference: FK020D; Publisher: Altium Limited; PackageDescription: Leadless Chip Carrier; 20 Terminals; Body 8.9 x 8.9 mm; ComponentLink1Description: Manufacturer Link; ComponentLink1URL: http://www.ti.com
footprint FK020D (Leadless Chip Carrier; 20 Terminals; Body 8.9 x 8.9 mm)
signal-integrity model SN54F381FK
pins: 1 A1 (in), 2 B1 (in), 3 A0 (in), 4 B0 (in), 5 S0 (in), 6 S1 (in), 7 S2 (in), 8 F0 (out), 9 F1 (out), 10 GND (power), 11 F2 (out), 12 F3 (out), 13 ~{G} (out), 14 ~{P} (out), 15 Cn (in), 16 B3 (in), 17 A3 (in), 18 B2 (in), 19 A2 (in), 20 VCC (power)

## SN54F381J
designator U?
Arithmetic Logic Unit / Function Generator; Published: 8-Jun-2000; LatestRevisionDate: 04-Mar-2005; LatestRevisionNote: Stylized 3D Model Added.; DatasheetVersion: Jun-1988; PackageVersion: Jun-1999; PackageReference: J020D; Publisher: Altium Limited; PackageDescription: DIP; 20 Leads; Row Spacing 7.62 mm; Pitch 2.54 mm; ComponentLink1Description: Manufacturer Link; ComponentLink1URL: http://www.ti.com
footprint J020D (DIP; 20 Leads; Row Spacing 7.62 mm; Pitch 2.54 mm)
3D model J020 (DIP; 20 Leads; Row Spacing 7.62 mm; Pitch 2.54 mm)
signal-integrity model SN54F381J
pins: 1 A1 (in), 2 B1 (in), 3 A0 (in), 4 B0 (in), 5 S0 (in), 6 S1 (in), 7 S2 (in), 8 F0 (out), 9 F1 (out), 10 GND (power), 11 F2 (out), 12 F3 (out), 13 ~{G} (out), 14 ~{P} (out), 15 Cn (in), 16 B3 (in), 17 A3 (in), 18 B2 (in), 19 A2 (in), 20 VCC (power)

## SN54F382FK
designator U?
Arithmetic Logic Unit / Function Generator; Published: 8-Jun-2000; LatestRevisionDate: 17-Jul-2002; LatestRevisionNote: Re-released for DXP Platform.; DatasheetVersion: Jan-1989; PackageVersion: 1998; PackageReference: FK020D; Publisher: Altium Limited; PackageDescription: Leadless Chip Carrier; 20 Terminals; Body 8.9 x 8.9 mm; ComponentLink1Description: Manufacturer Link; ComponentLink1URL: http://www.ti.com
footprint FK020D (Leadless Chip Carrier; 20 Terminals; Body 8.9 x 8.9 mm)
signal-integrity model SN54F382FK
pins: 1 A1 (in), 2 B1 (in), 3 A0 (in), 4 B0 (in), 5 S0 (in), 6 S1 (in), 7 S2 (in), 8 F0 (out), 9 F1 (out), 10 GND (power), 11 F2 (out), 12 F3 (out), 13 OVR (out), 14 Cn+4 (out), 15 Cn (in), 16 B3 (in), 17 A3 (in), 18 B2 (in), 19 A2 (in), 20 VCC (power)

## SN54F382J
designator U?
Arithmetic Logic Unit / Function Generator; Published: 8-Jun-2000; LatestRevisionDate: 04-Mar-2005; LatestRevisionNote: Stylized 3D Model Added.; DatasheetVersion: Jan-1989; PackageVersion: Jun-1999; PackageReference: J020D; Publisher: Altium Limited; PackageDescription: DIP; 20 Leads; Row Spacing 7.62 mm; Pitch 2.54 mm; ComponentLink1Description: Manufacturer Link; ComponentLink1URL: http://www.ti.com
footprint J020D (DIP; 20 Leads; Row Spacing 7.62 mm; Pitch 2.54 mm)
3D model J020 (DIP; 20 Leads; Row Spacing 7.62 mm; Pitch 2.54 mm)
signal-integrity model SN54F382J
pins: 1 A1 (in), 2 B1 (in), 3 A0 (in), 4 B0 (in), 5 S0 (in), 6 S1 (in), 7 S2 (in), 8 F0 (out), 9 F1 (out), 10 GND (power), 11 F2 (out), 12 F3 (out), 13 OVR (out), 14 Cn+4 (out), 15 Cn (in), 16 B3 (in), 17 A3 (in), 18 B2 (in), 19 A2 (in), 20 VCC (power)

## SN54HC283FK
designator U?
4-Bit Binary Full Adder with Fast Carry; Note: Pin(s) 1,6,11,16 "No Connection" and not drawn.; Published: 8-Jun-2000; LatestRevisionDate: 17-Jul-2002; LatestRevisionNote: Re-released for DXP Platform.; DatasheetVersion: Sep-1987; PackageVersion: 1998; PackageReference: FK020; Publisher: Altium Limited; PackageDescription: Leadless Chip Carrier; 20 Terminals; Body 8.9 x 8.9 mm; ComponentLink1Description: Manufacturer Link; ComponentLink1URL: http://www.ti.com
footprint FK020 (Leadless Chip Carrier; 20 Terminals; Body 8.9 x 8.9 mm)
signal-integrity model SN54HC283FK
pins: 2 S1 (out), 3 B1 (in), 4 A1 (in), 5 S0 (out), 7 A0 (in), 8 B0 (in), 9 CIN (in), 10 GND (power), 12 COUT (out), 13 S3 (out), 14 B3 (in), 15 A3 (in), 17 S2 (out), 18 A2 (in), 19 B2 (in), 20 VCC (power)

## SN54HC283J
designator U?
4-Bit Binary Full Adder with Fast Carry; Published: 8-Jun-2000; LatestRevisionDate: 04-Mar-2005; LatestRevisionNote: Stylized 3D Model Added.; DatasheetVersion: Sep-1987; PackageVersion: Jun-1999; PackageReference: J016; Publisher: Altium Limited; PackageDescription: DIP; 16 Leads; Row Spacing 7.62 mm; Pitch 2.54 mm; ComponentLink1Description: Manufacturer Link; ComponentLink1URL: http://www.ti.com
footprint J016 (DIP; 16 Leads; Row Spacing 7.62 mm; Pitch 2.54 mm)
3D model J016 (DIP; 16 Leads; Row Spacing 7.62 mm; Pitch 2.54 mm)
signal-integrity model SN54HC283J
pins: 1 S1 (out), 2 B1 (in), 3 A1 (in), 4 S0 (out), 5 A0 (in), 6 B0 (in), 7 CIN (in), 8 GND (power), 9 COUT (out), 10 S3 (out), 11 B3 (in), 12 A3 (in), 13 S2 (out), 14 A2 (in), 15 B2 (in), 16 VCC (power)

## SN54LS56JG
designator U?
Frequency Divider; Published: 8-Jun-2000; LatestRevisionDate: 04-Mar-2005; LatestRevisionNote: Stylized 3D Model Added.; DatasheetVersion: Mar-1988; PackageVersion: Jan-1995; PackageReference: JG008; Publisher: Altium Limited; PackageDescription: DIP; 8 Leads; Row Spacing 7.62 mm; Pitch 2.54 mm; ComponentLink1Description: Manufacturer Link; ComponentLink1URL: http://www.ti.com
footprint JG008 (DIP; 8 Leads; Row Spacing 7.62 mm; Pitch 2.54 mm)
3D model JG008 (DIP; 8 Leads; Row Spacing 7.62 mm; Pitch 2.54 mm)
signal-integrity model SN54LS56JG
pins: 1 CLKB (in), 2 VCC (power), 3 QA (out), 4 GND (power), 5 CLKA (in), 6 CLR (in), 7 QB (out), 8 QC (out)

## SN54LS57JG
designator U?
Frequency Divider; Published: 8-Jun-2000; LatestRevisionDate: 04-Mar-2005; LatestRevisionNote: Stylized 3D Model Added.; DatasheetVersion: Mar-1988; PackageVersion: Jan-1995; PackageReference: JG008; Publisher: Altium Limited; PackageDescription: DIP; 8 Leads; Row Spacing 7.62 mm; Pitch 2.54 mm; ComponentLink1Description: Manufacturer Link; ComponentLink1URL: http://www.ti.com
footprint JG008 (DIP; 8 Leads; Row Spacing 7.62 mm; Pitch 2.54 mm)
3D model JG008 (DIP; 8 Leads; Row Spacing 7.62 mm; Pitch 2.54 mm)
signal-integrity model SN54LS57JG
pins: 1 CLKB (in), 2 VCC (power), 3 QA (out), 4 GND (power), 5 CLKA (in), 6 CLR (in), 7 QB (out), 8 QC (out)

## SN54LS83AFK
designator U?
4-Bit Binary Full Adder with Fast Carry; Note: Pins 1, 6, 11, 16 are NC & are not drawn.; Published: 8-Jun-2000; LatestRevisionDate: 17-Jul-2002; LatestRevisionNote: Re-released for DXP Platform.; DatasheetVersion: Mar-1988; PackageVersion: 1998; PackageReference: FK020D; Publisher: Altium Limited; PackageDescription: Leadless Chip Carrier; 20 Terminals; Body 8.9 x 8.9 mm; ComponentLink1Description: Manufacturer Link; ComponentLink1URL: http://www.ti.com
footprint FK020D (Leadless Chip Carrier; 20 Terminals; Body 8.9 x 8.9 mm)
simulation model SN74LS83A (SIMCODE)
signal-integrity model SN54LS83AFK
pins: 2 S2 (out), 3 B2 (in), 4 A2 (in), 5 S1 (out), 7 A1 (in), 8 B1 (in), 9 CO (in), 10 GND (power), 12 C4 (out), 13 S4 (out), 14 B4 (in), 15 A4 (in), 17 S3 (out), 18 A3 (in), 19 B3 (in), 20 VCC (power)

## SN54LS83AJ
designator U?
4-Bit Binary Full Adder with Fast Carry; Published: 8-Jun-2000; LatestRevisionDate: 04-Mar-2005; LatestRevisionNote: Stylized 3D Model Added.; DatasheetVersion: Mar-1988; PackageVersion: Jun-1999; PackageReference: J016D; Publisher: Altium Limited; PackageDescription: DIP; 16 Leads; Row Spacing 7.62 mm; Pitch 2.54 mm; ComponentLink1Description: Manufacturer Link; ComponentLink1URL: http://www.ti.com
footprint J016D (DIP; 16 Leads; Row Spacing 7.62 mm; Pitch 2.54 mm)
3D model J016 (DIP; 16 Leads; Row Spacing 7.62 mm; Pitch 2.54 mm)
simulation model SN74LS83A (SIMCODE)
signal-integrity model SN54LS83AJ
pins: 1 A4 (in), 2 S3 (out), 3 A3 (in), 4 B3 (in), 5 VCC (power), 6 S2 (out), 7 B2 (in), 8 A2 (in), 9 S1 (out), 10 A1 (in), 11 B1 (in), 12 GND (power), 13 CO (in), 14 C4 (out), 15 S4 (out), 16 B4 (in)

## SN54LS83AW
designator U?
4-Bit Binary Full Adder with Fast Carry; Published: 8-Jun-2000; LatestRevisionDate: 04-Mar-2005; LatestRevisionNote: Stylized 3D Model Added.; DatasheetVersion: Mar-1988; PackageVersion: Jan-1995; PackageReference: W016; Publisher: Altium Limited; PackageDescription: DFP; 16 Leads; Body 10.9 x 7.2 mm (LxW max); Pitch 1.27 mm; Code_JEDEC: MO-092-AC; ComponentLink1Description: Manufacturer Link; ComponentLink1URL: http://www.ti.com
footprint W016 (DFP; 16 Leads; Body 10.9 x 7.2 mm (LxW max); Pitch 1.27 mm)
3D model W016 (DFP; 16 Leads; Body 10.9 x 7.2 mm (LxW max); Pitch 1.27 mm)
simulation model SN74LS83A (SIMCODE)
signal-integrity model SN54LS83AW
pins: 1 A4 (in), 2 S3 (out), 3 A3 (in), 4 B3 (in), 5 VCC (power), 6 S2 (out), 7 B2 (in), 8 A2 (in), 9 S1 (out), 10 A1 (in), 11 B1 (in), 12 GND (power), 13 CO (in), 14 C4 (out), 15 S4 (out), 16 B4 (in)

## SN54LS181FK
designator U?
Arithmetic Logic Unit / Function Generator; Note: Pins 1, 8, 15, 22 are NC & are not drawn.; Published: 8-Jun-2000; LatestRevisionDate: 17-Jul-2002; LatestRevisionNote: Re-released for DXP Platform.; DatasheetVersion: Mar-1988; PackageVersion: 1998; PackageReference: FK028; Publisher: Altium Limited; PackageDescription: Leadless Chip Carrier; 28 Terminals; Body 11.4 x 11.4 mm; ComponentLink1Description: Manufacturer Link; ComponentLink1URL: http://www.ti.com; ComponentLink2Description: Datasheet; ComponentLink2URL: http://www-s.ti.com/sc/ds/sn74ls181.pdf
footprint FK028 (Leadless Chip Carrier; 28 Terminals; Body 11.4 x 11.4 mm)
simulation model SN74LS181 (SIMCODE)
signal-integrity model SN54LS181FK
pins: 2 ~{B}0 (in), 3 ~{A}0 (in), 4 S3 (in), 5 S2 (in), 6 S1 (in), 7 S0 (in), 9 Cn (in), 10 M (in), 11 ~{F}0 (out), 12 ~{F}1 (out), 13 ~{F}2 (out), 14 GND (power), 16 ~{F}3 (out), 17 A=B (oc), 18 ~{P} (out), 19 Cn+4 (out), 20 ~{G} (out), 21 ~{B}3 (in), 23 ~{A}3 (in), 24 ~{B}2 (in), 25 ~{A}2 (in), 26 ~{B}1 (in), 27 ~{A}1 (in), 28 VCC (power)

## SN54LS181J
designator U?
Arithmetic Logic Unit / Function Generator; Published: 8-Jun-2000; LatestRevisionDate: 04-Mar-2005; LatestRevisionNote: Stylized 3D Model Added.; DatasheetVersion: Mar-1988; PackageVersion: Nov-1997; PackageReference: J024; Publisher: Altium Limited; PackageDescription: DIP; 24 Leads; Row Spacing 15.24 mm; Pitch 2.54 mm; ComponentLink1Description: Manufacturer Link; ComponentLink1URL: http://www.ti.com; ComponentLink2Description: Datasheet; ComponentLink2URL: http://www-s.ti.com/sc/ds/sn74ls181.pdf
footprint J024 (DIP; 24 Leads; Row Spacing 15.24 mm; Pitch 2.54 mm)
3D model J024 (DIP; 24 Leads; Row Spacing 15.24 mm; Pitch 2.54 mm)
simulation model SN74LS181 (SIMCODE)
signal-integrity model SN54LS181J
pins: 1 ~{B}0 (in), 2 ~{A}0 (in), 3 S3 (in), 4 S2 (in), 5 S1 (in), 6 S0 (in), 7 Cn (in), 8 M (in), 9 ~{F}0 (out), 10 ~{F}1 (out), 11 ~{F}2 (out), 12 GND (power), 13 ~{F}3 (out), 14 A=B (oc), 15 ~{P} (out), 16 Cn+4 (out), 17 ~{G} (out), 18 ~{B}3 (in), 19 ~{A}3 (in), 20 ~{B}2 (in), 21 ~{A}2 (in), 22 ~{B}1 (in), 23 ~{A}1 (in), 24 VCC (power)

## SN54LS181W
designator U?
Arithmetic Logic Unit / Function Generator; Published: 8-Jun-2000; LatestRevisionDate: 04-Mar-2005; LatestRevisionNote: Stylized 3D Model Added.; DatasheetVersion: Mar-1988; PackageVersion: Oct-1994; PackageReference: W024; Publisher: Altium Limited; PackageDescription: DFP; 24 Leads; Body 16.3 x 9.5 mm (LxW max); Pitch 1.27 mm; Code_JEDEC: MO-070-AD; ComponentLink1Description: Manufacturer Link; ComponentLink1URL: http://www.ti.com; ComponentLink2Description: Datasheet; ComponentLink2URL: http://www-s.ti.com/sc/ds/sn74ls181.pdf
footprint W024 (DFP; 24 Leads; Body 16.3 x 9.5 mm (LxW max); Pitch 1.27 mm)
3D model W024 (DFP; 24 Leads; Body 16.3 x 9.5 mm (LxW max); Pitch 1.27 mm)
simulation model SN74LS181 (SIMCODE)
signal-integrity model SN54LS181W
pins: 1 ~{B}0 (in), 2 ~{A}0 (in), 3 S3 (in), 4 S2 (in), 5 S1 (in), 6 S0 (in), 7 Cn (in), 8 M (in), 9 ~{F}0 (out), 10 ~{F}1 (out), 11 ~{F}2 (out), 12 GND (power), 13 ~{F}3 (out), 14 A=B (oc), 15 ~{P} (out), 16 Cn+4 (out), 17 ~{G} (out), 18 ~{B}3 (in), 19 ~{A}3 (in), 20 ~{B}2 (in), 21 ~{A}2 (in), 22 ~{B}1 (in), 23 ~{A}1 (in), 24 VCC (power)